# Altium schematic symbol library WE-PD.SchLib: 360 symbols (part 3 of 7)
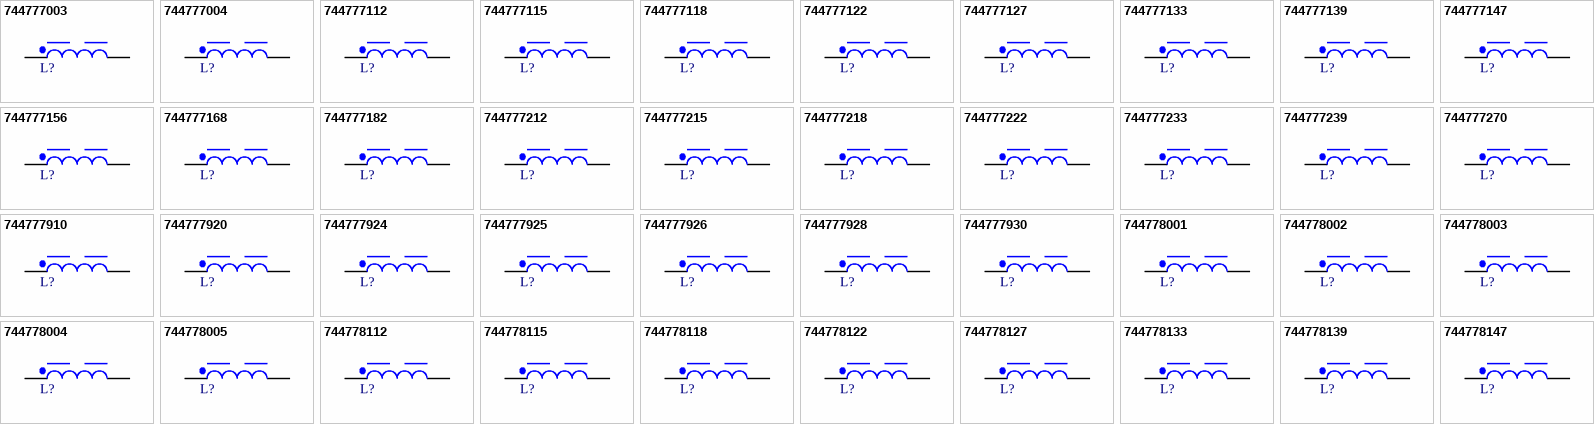
[diagram p10: symbols 744777003 to 744778147]

## 744778112
designator L?, comment 12uH, 1.73A  (value not drawn)
WE-PD SMT Power Inductor, size 7332, 12uH, 1.73A, 98mOhm; Manufacturer Part Number: 744778112; Manufacturer: Wurth Elektronik; Case/Size Code: 7332; DC Resistance: 76mOhm; Saturation Current: 2.15A; Self Resonant Frequency: 27MHz; Type: Standard; Category: Power Inductors; Match Code: WE-PD; ComponentLink1Description: Website Link; ComponentLink1URL: https://www.we-online.com/redexpert/article/744778112?ad; ComponentLink2Description: Datasheet Link; ComponentLink2URL: https://www.we-online.com/redexpert/spec/744778112?ad; Mount: Surface Mount; Operating Temperature Max: 125°C; Operating Temperature Min: -40°C; Packaging: Tape and Reel; Length: 7.3mm; Width: 7.3mm; Height: 3.2mm; DC Resistance Max: 98mOhm; Inductance: 12uH; Rated Current: 1.73A
footprint WE-PD_7332
simulation model 7332_744778112_12u
pins: 1, 2

## 744778115
designator L?, comment 15uH, 1.51A  (value not drawn)
WE-PD SMT Power Inductor, size 7332, 15uH, 1.51A, 130mOhm; Manufacturer Part Number: 744778115; Manufacturer: Wurth Elektronik; Case/Size Code: 7332; DC Resistance: 100mOhm; Saturation Current: 1.75A; Self Resonant Frequency: 26MHz; Type: Standard; Category: Power Inductors; Match Code: WE-PD; ComponentLink1Description: Website Link; ComponentLink1URL: https://www.we-online.com/redexpert/article/744778115?ad; ComponentLink2Description: Datasheet Link; ComponentLink2URL: https://www.we-online.com/redexpert/spec/744778115?ad; Mount: Surface Mount; Operating Temperature Max: 125°C; Operating Temperature Min: -40°C; Packaging: Tape and Reel; Length: 7.3mm; Width: 7.3mm; Height: 3.2mm; DC Resistance Max: 130mOhm; Inductance: 15uH; Rated Current: 1.51A
footprint WE-PD_7332
simulation model 7332_744778115_15u
pins: 1, 2

## 744778118
designator L?, comment 18uH, 1.41A  (value not drawn)
WE-PD SMT Power Inductor, size 7332, 18uH, 1.41A, 140mOhm; Manufacturer Part Number: 744778118; Manufacturer: Wurth Elektronik; Case/Size Code: 7332; DC Resistance: 114mOhm; Saturation Current: 1.7A; Self Resonant Frequency: 24MHz; Type: Standard; Category: Power Inductors; Match Code: WE-PD; ComponentLink1Description: Website Link; ComponentLink1URL: https://www.we-online.com/redexpert/article/744778118?ad; ComponentLink2Description: Datasheet Link; ComponentLink2URL: https://www.we-online.com/redexpert/spec/744778118?ad; Mount: Surface Mount; Operating Temperature Max: 125°C; Operating Temperature Min: -40°C; Packaging: Tape and Reel; Length: 7.3mm; Width: 7.3mm; Height: 3.2mm; DC Resistance Max: 140mOhm; Inductance: 18uH; Rated Current: 1.41A
footprint WE-PD_7332
simulation model 7332_744778118_18u
pins: 1, 2

## 744778122
designator L?, comment 22uH, 1.38A  (value not drawn)
WE-PD SMT Power Inductor, size 7332, 22uH, 1.38A, 190mOhm; Manufacturer Part Number: 744778122; Manufacturer: Wurth Elektronik; Case/Size Code: 7332; DC Resistance: 119mOhm; Saturation Current: 1.4A; Self Resonant Frequency: 20MHz; Type: Standard; Category: Power Inductors; Match Code: WE-PD; ComponentLink1Description: Website Link; ComponentLink1URL: https://www.we-online.com/redexpert/article/744778122?ad; ComponentLink2Description: Datasheet Link; ComponentLink2URL: https://www.we-online.com/redexpert/spec/744778122?ad; Mount: Surface Mount; Operating Temperature Max: 125°C; Operating Temperature Min: -40°C; Packaging: Tape and Reel; Length: 7.3mm; Width: 7.3mm; Height: 3.2mm; DC Resistance Max: 190mOhm; Inductance: 22uH; Rated Current: 1.38A
footprint WE-PD_7332
simulation model 7332_744778122_22u
pins: 1, 2

## 744778127
designator L?, comment 27uH, 1.27A  (value not drawn)
WE-PD SMT Power Inductor, size 7332, 27uH, 1.27A, 240mOhm; Manufacturer Part Number: 744778127; Manufacturer: Wurth Elektronik; Case/Size Code: 7332; DC Resistance: 140mOhm; Saturation Current: 1.3A; Self Resonant Frequency: 18MHz; Type: Standard; Category: Power Inductors; Match Code: WE-PD; ComponentLink1Description: Website Link; ComponentLink1URL: https://www.we-online.com/redexpert/article/744778127?ad; ComponentLink2Description: Datasheet Link; ComponentLink2URL: https://www.we-online.com/redexpert/spec/744778127?ad; Mount: Surface Mount; Operating Temperature Max: 125°C; Operating Temperature Min: -40°C; Packaging: Tape and Reel; Length: 7.3mm; Width: 7.3mm; Height: 3.2mm; DC Resistance Max: 240mOhm; Inductance: 27uH; Rated Current: 1.27A
footprint WE-PD_7332
simulation model 7332_744778127_27u
pins: 1, 2

## 744778133
designator L?, comment 33uH, 1.22A  (value not drawn)
WE-PD SMT Power Inductor, size 7332, 33uH, 1.22A, 240mOhm; Manufacturer Part Number: 744778133; Manufacturer: Wurth Elektronik; Case/Size Code: 7332; DC Resistance: 153mOhm; Saturation Current: 1.15A; Self Resonant Frequency: 16MHz; Type: Standard; Category: Power Inductors; Match Code: WE-PD; ComponentLink1Description: Website Link; ComponentLink1URL: https://www.we-online.com/redexpert/article/744778133?ad; ComponentLink2Description: Datasheet Link; ComponentLink2URL: https://www.we-online.com/redexpert/spec/744778133?ad; Mount: Surface Mount; Operating Temperature Max: 125°C; Operating Temperature Min: -40°C; Packaging: Tape and Reel; Length: 7.3mm; Width: 7.3mm; Height: 3.2mm; DC Resistance Max: 240mOhm; Inductance: 33uH; Rated Current: 1.22A
footprint WE-PD_7332
simulation model 7332_744778133_33u
pins: 1, 2

## 744778139
designator L?, comment 39uH, 1.03A  (value not drawn)
WE-PD SMT Power Inductor, size 7332, 39uH, 1.03A, 320mOhm; Manufacturer Part Number: 744778139; Manufacturer: Wurth Elektronik; Case/Size Code: 7332; DC Resistance: 214mOhm; Saturation Current: 1.1A; Self Resonant Frequency: 14MHz; Type: Standard; Category: Power Inductors; Match Code: WE-PD; ComponentLink1Description: Website Link; ComponentLink1URL: https://www.we-online.com/redexpert/article/744778139?ad; ComponentLink2Description: Datasheet Link; ComponentLink2URL: https://www.we-online.com/redexpert/spec/744778139?ad; Mount: Surface Mount; Operating Temperature Max: 125°C; Operating Temperature Min: -40°C; Packaging: Tape and Reel; Length: 7.3mm; Width: 7.3mm; Height: 3.2mm; DC Resistance Max: 320mOhm; Inductance: 39uH; Rated Current: 1.03A
footprint WE-PD_7332
simulation model 7332_744778139_39u
pins: 1, 2

## 744778147
designator L?, comment 47uH, 0.85A  (value not drawn)
WE-PD SMT Power Inductor, size 7332, 47uH, 0.85A, 360mOhm; Manufacturer Part Number: 744778147; Manufacturer: Wurth Elektronik; Case/Size Code: 7332; DC Resistance: 315mOhm; Saturation Current: 1A; Self Resonant Frequency: 13.5MHz; Type: Standard; Category: Power Inductors; Match Code: WE-PD; ComponentLink1Description: Website Link; ComponentLink1URL: https://www.we-online.com/redexpert/article/744778147?ad; ComponentLink2Description: Datasheet Link; ComponentLink2URL: https://www.we-online.com/redexpert/spec/744778147?ad; Mount: Surface Mount; Operating Temperature Max: 125°C; Operating Temperature Min: -40°C; Packaging: Tape and Reel; Length: 7.3mm; Width: 7.3mm; Height: 3.2mm; DC Resistance Max: 360mOhm; Inductance: 47uH; Rated Current: 0.85A
footprint WE-PD_7332
simulation model 7332_744778147_47u
pins: 1, 2

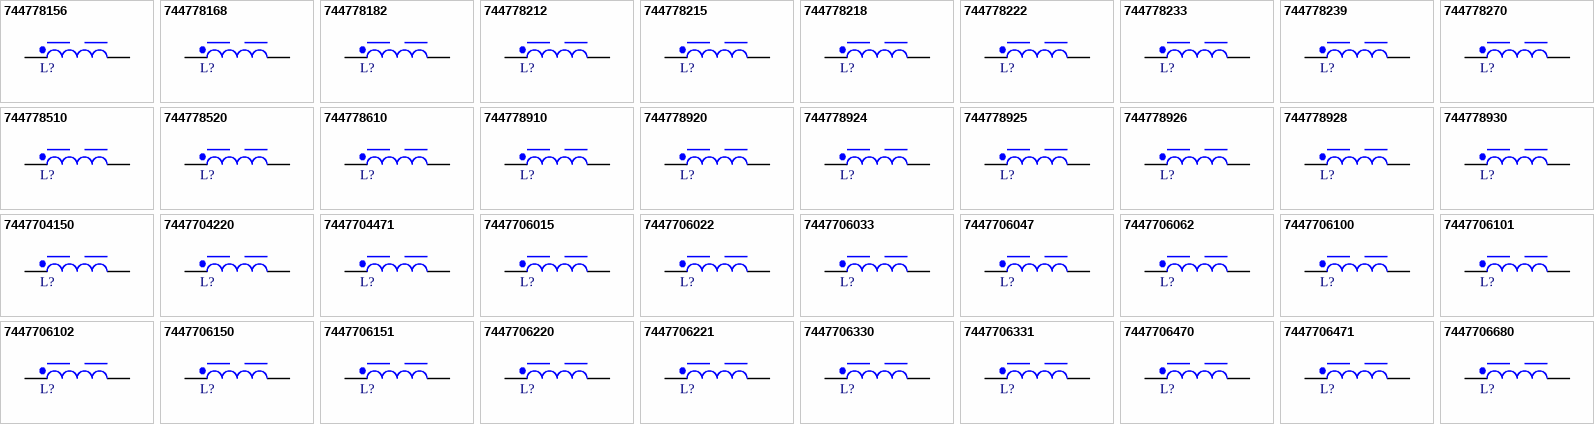
[diagram p3: symbols 744778156 to 7447706680]

## 744778156
designator L?, comment 56uH, 0.84A  (value not drawn)
WE-PD SMT Power Inductor, size 7332, 56uH, 0.84A, 470mOhm; Manufacturer Part Number: 744778156; Manufacturer: Wurth Elektronik; Case/Size Code: 7332; DC Resistance: 322mOhm; Saturation Current: 0.88A; Self Resonant Frequency: 12.5MHz; Type: Standard; Category: Power Inductors; Match Code: WE-PD; ComponentLink1Description: Website Link; ComponentLink1URL: https://www.we-online.com/redexpert/article/744778156?ad; ComponentLink2Description: Datasheet Link; ComponentLink2URL: https://www.we-online.com/redexpert/spec/744778156?ad; Mount: Surface Mount; Operating Temperature Max: 125°C; Operating Temperature Min: -40°C; Packaging: Tape and Reel; Length: 7.3mm; Width: 7.3mm; Height: 3.2mm; DC Resistance Max: 470mOhm; Inductance: 56uH; Rated Current: 0.84A
footprint WE-PD_7332
simulation model 7332_744778156_56u
pins: 1, 2

## 744778168
designator L?, comment 68uH, 0.74A  (value not drawn)
WE-PD SMT Power Inductor, size 7332, 68uH, 0.74A, 520mOhm; Manufacturer Part Number: 744778168; Manufacturer: Wurth Elektronik; Case/Size Code: 7332; DC Resistance: 420mOhm; Saturation Current: 0.84A; Self Resonant Frequency: 11.5MHz; Type: Standard; Category: Power Inductors; Match Code: WE-PD; ComponentLink1Description: Website Link; ComponentLink1URL: https://www.we-online.com/redexpert/article/744778168?ad; ComponentLink2Description: Datasheet Link; ComponentLink2URL: https://www.we-online.com/redexpert/spec/744778168?ad; Mount: Surface Mount; Operating Temperature Max: 125°C; Operating Temperature Min: -40°C; Packaging: Tape and Reel; Length: 7.3mm; Width: 7.3mm; Height: 3.2mm; DC Resistance Max: 520mOhm; Inductance: 68uH; Rated Current: 0.74A
footprint WE-PD_7332
simulation model 7332_744778168_68u
pins: 1, 2

## 744778182
designator L?, comment 82uH, 0.69A  (value not drawn)
WE-PD SMT Power Inductor, size 7332, 82uH, 0.69A, 690mOhm; Manufacturer Part Number: 744778182; Manufacturer: Wurth Elektronik; Case/Size Code: 7332; DC Resistance: 480mOhm; Saturation Current: 0.78A; Self Resonant Frequency: 9.8MHz; Type: Standard; Category: Power Inductors; Match Code: WE-PD; ComponentLink1Description: Website Link; ComponentLink1URL: https://www.we-online.com/redexpert/article/744778182?ad; ComponentLink2Description: Datasheet Link; ComponentLink2URL: https://www.we-online.com/redexpert/spec/744778182?ad; Mount: Surface Mount; Operating Temperature Max: 125°C; Operating Temperature Min: -40°C; Packaging: Tape and Reel; Length: 7.3mm; Width: 7.3mm; Height: 3.2mm; DC Resistance Max: 690mOhm; Inductance: 82uH; Rated Current: 0.69A
footprint WE-PD_7332
simulation model 7332_744778182_82u
pins: 1, 2

## 744778212
designator L?, comment 120uH, 0.6A  (value not drawn)
WE-PD SMT Power Inductor, size 7332, 120uH, 0.6A, 890mOhm; Manufacturer Part Number: 744778212; Manufacturer: Wurth Elektronik; Case/Size Code: 7332; DC Resistance: 630mOhm; Saturation Current: 0.68A; Self Resonant Frequency: 8.5MHz; Type: Standard; Category: Power Inductors; Match Code: WE-PD; ComponentLink1Description: Website Link; ComponentLink1URL: https://www.we-online.com/redexpert/article/744778212?ad; ComponentLink2Description: Datasheet Link; ComponentLink2URL: https://www.we-online.com/redexpert/spec/744778212?ad; Mount: Surface Mount; Operating Temperature Max: 125°C; Operating Temperature Min: -40°C; Packaging: Tape and Reel; Length: 7.3mm; Width: 7.3mm; Height: 3.2mm; DC Resistance Max: 890mOhm; Inductance: 120uH; Rated Current: 0.6A
footprint WE-PD_7332
simulation model 7332_744778212_120u
pins: 1, 2

## 744778215
designator L?, comment 150uH, 0.56A  (value not drawn)
WE-PD SMT Power Inductor, size 7332, 150uH, 0.56A, 1270mOhm; Manufacturer Part Number: 744778215; Manufacturer: Wurth Elektronik; Case/Size Code: 7332; DC Resistance: 720mOhm; Saturation Current: 0.53A; Self Resonant Frequency: 7.2MHz; Type: Standard; Category: Power Inductors; Match Code: WE-PD; ComponentLink1Description: Website Link; ComponentLink1URL: https://www.we-online.com/redexpert/article/744778215?ad; ComponentLink2Description: Datasheet Link; ComponentLink2URL: https://www.we-online.com/redexpert/spec/744778215?ad; Mount: Surface Mount; Operating Temperature Max: 125°C; Operating Temperature Min: -40°C; Packaging: Tape and Reel; Length: 7.3mm; Width: 7.3mm; Height: 3.2mm; DC Resistance Max: 1270mOhm; Inductance: 150uH; Rated Current: 0.56A
footprint WE-PD_7332
simulation model 7332_744778215_150u
pins: 1, 2

## 744778218
designator L?, comment 180uH, 0.49A  (value not drawn)
WE-PD SMT Power Inductor, size 7332, 180uH, 0.49A, 1450mOhm; Manufacturer Part Number: 744778218; Manufacturer: Wurth Elektronik; Case/Size Code: 7332; DC Resistance: 960mOhm; Saturation Current: 0.5A; Self Resonant Frequency: 7MHz; Type: Standard; Category: Power Inductors; Match Code: WE-PD; ComponentLink1Description: Website Link; ComponentLink1URL: https://www.we-online.com/redexpert/article/744778218?ad; ComponentLink2Description: Datasheet Link; ComponentLink2URL: https://www.we-online.com/redexpert/spec/744778218?ad; Mount: Surface Mount; Operating Temperature Max: 125°C; Operating Temperature Min: -40°C; Packaging: Tape and Reel; Length: 7.3mm; Width: 7.3mm; Height: 3.2mm; DC Resistance Max: 1450mOhm; Inductance: 180uH; Rated Current: 0.49A
footprint WE-PD_7332
simulation model 7332_744778218_180u
pins: 1, 2

## 744778222
designator L?, comment 220uH, 0.43A  (value not drawn)
WE-PD SMT Power Inductor, size 7332, 220uH, 0.43A, 1650mOhm; Manufacturer Part Number: 744778222; Manufacturer: Wurth Elektronik; Case/Size Code: 7332; DC Resistance: 1220mOhm; Saturation Current: 0.42A; Self Resonant Frequency: 6MHz; Type: Standard; Category: Power Inductors; Match Code: WE-PD; ComponentLink1Description: Website Link; ComponentLink1URL: https://www.we-online.com/redexpert/article/744778222?ad; ComponentLink2Description: Datasheet Link; ComponentLink2URL: https://www.we-online.com/redexpert/spec/744778222?ad; Mount: Surface Mount; Operating Temperature Max: 125°C; Operating Temperature Min: -40°C; Packaging: Tape and Reel; Length: 7.3mm; Width: 7.3mm; Height: 3.2mm; DC Resistance Max: 1650mOhm; Inductance: 220uH; Rated Current: 0.43A
footprint WE-PD_7332
simulation model 7332_744778222_220u
pins: 1, 2

## 744778233
designator L?, comment 330uH, 0.32A  (value not drawn)
WE-PD SMT Power Inductor, size 7332, 330uH, 0.32A, 2620mOhm; Manufacturer Part Number: 744778233; Manufacturer: Wurth Elektronik; Case/Size Code: 7332; DC Resistance: 2280mOhm; Saturation Current: 0.35A; Self Resonant Frequency: 4.8MHz; Type: Standard; Category: Power Inductors; Match Code: WE-PD; ComponentLink1Description: Website Link; ComponentLink1URL: https://www.we-online.com/redexpert/article/744778233?ad; ComponentLink2Description: Datasheet Link; ComponentLink2URL: https://www.we-online.com/redexpert/spec/744778233?ad; Mount: Surface Mount; Operating Temperature Max: 125°C; Operating Temperature Min: -40°C; Packaging: Tape and Reel; Length: 7.3mm; Width: 7.3mm; Height: 3.2mm; DC Resistance Max: 2620mOhm; Inductance: 330uH; Rated Current: 0.32A
footprint WE-PD_7332
simulation model 7332_744778233_330u
pins: 1, 2

## 744778239
designator L?, comment 390uH, 0.3A  (value not drawn)
WE-PD SMT Power Inductor, size 7332, 390uH, 0.3A, 2940mOhm; Manufacturer Part Number: 744778239; Manufacturer: Wurth Elektronik; Case/Size Code: 7332; DC Resistance: 2490mOhm; Saturation Current: 0.34A; Self Resonant Frequency: 4.4MHz; Type: Standard; Category: Power Inductors; Match Code: WE-PD; ComponentLink1Description: Website Link; ComponentLink1URL: https://www.we-online.com/redexpert/article/744778239?ad; ComponentLink2Description: Datasheet Link; ComponentLink2URL: https://www.we-online.com/redexpert/spec/744778239?ad; Mount: Surface Mount; Operating Temperature Max: 125°C; Operating Temperature Min: -40°C; Packaging: Tape and Reel; Length: 7.3mm; Width: 7.3mm; Height: 3.2mm; DC Resistance Max: 2940mOhm; Inductance: 390uH; Rated Current: 0.3A
footprint WE-PD_7332
simulation model 7332_744778239_390u
pins: 1, 2

## 744778270
designator L?, comment 270uH, 0.4A  (value not drawn)
WE-PD SMT Power Inductor, size 7332, 270uH, 0.4A, 2310mOhm; Manufacturer Part Number: 744778270; Manufacturer: Wurth Elektronik; Case/Size Code: 7332; DC Resistance: 1440mOhm; Saturation Current: 0.39A; Self Resonant Frequency: 5.2MHz; Type: Standard; Category: Power Inductors; Match Code: WE-PD; ComponentLink1Description: Website Link; ComponentLink1URL: https://www.we-online.com/redexpert/article/744778270?ad; ComponentLink2Description: Datasheet Link; ComponentLink2URL: https://www.we-online.com/redexpert/spec/744778270?ad; Mount: Surface Mount; Operating Temperature Max: 125°C; Operating Temperature Min: -40°C; Packaging: Tape and Reel; Length: 7.3mm; Width: 7.3mm; Height: 3.2mm; DC Resistance Max: 2310mOhm; Inductance: 270uH; Rated Current: 0.4A
footprint WE-PD_7332
simulation model 7332_744778270_270u
pins: 1, 2

## 744778510
designator L?, comment 10uH, 1.9A  (value not drawn)
WE-PD SMT Power Inductor, size 6033R, 10uH, 1.9A, 125mOhm; Manufacturer Part Number: 744778510; Manufacturer: Wurth Elektronik; DC Resistance: 100mOhm; Saturation Current: 1.6A; Self Resonant Frequency: 37MHz; Type: Robust; Category: Power Inductors; Match Code: WE-PD; ComponentLink1Description: Website Link; ComponentLink1URL: https://www.we-online.com/redexpert/article/744778510?ad; ComponentLink2Description: Datasheet Link; ComponentLink2URL: https://www.we-online.com/redexpert/spec/744778510?ad; Mount: Surface Mount; Operating Temperature Max: 125°C; Operating Temperature Min: -40°C; Packaging: Tape and Reel; Case/Size Code: 6033R; Length: 5.9mm; Width: 6.2mm; Height: 3.3mm; DC Resistance Max: 125mOhm; Inductance: 10uH; Rated Current: 1.9A
footprint WE-PD_6033R
simulation model 6033_744778510_10u
pins: 1, 2

## 744778520
designator L?, comment 100uH, 0.65A  (value not drawn)
WE-PD SMT Power Inductor, size 6033R, 100uH, 0.65A, 1060mOhm; Manufacturer Part Number: 744778520; Manufacturer: Wurth Elektronik; DC Resistance: 950mOhm; Saturation Current: 0.5A; Self Resonant Frequency: 11MHz; Type: Robust; Category: Power Inductors; Match Code: WE-PD; ComponentLink1Description: Website Link; ComponentLink1URL: https://www.we-online.com/redexpert/article/744778520?ad; ComponentLink2Description: Datasheet Link; ComponentLink2URL: https://www.we-online.com/redexpert/spec/744778520?ad; Mount: Surface Mount; Operating Temperature Max: 125°C; Operating Temperature Min: -40°C; Packaging: Tape and Reel; Case/Size Code: 6033R; Length: 5.9mm; Width: 6.2mm; Height: 3.3mm; DC Resistance Max: 1060mOhm; Inductance: 100uH; Rated Current: 0.65A
footprint WE-PD_6033R
simulation model 6033_744778520_100u
pins: 1, 2

## 744778610
designator L?, comment 10uH, 2.1A  (value not drawn)
WE-PD SMT Power Inductor, size 6050R, 10uH, 2.1A, 88mOhm; Manufacturer Part Number: 744778610; Manufacturer: Wurth Elektronik; DC Resistance: 74mOhm; Saturation Current: 1.8A; Self Resonant Frequency: 35MHz; Type: Robust; Category: Power Inductors; Match Code: WE-PD; ComponentLink1Description: Website Link; ComponentLink1URL: https://www.we-online.com/redexpert/article/744778610?ad; ComponentLink2Description: Datasheet Link; ComponentLink2URL: https://www.we-online.com/redexpert/spec/744778610?ad; Mount: Surface Mount; Operating Temperature Max: 125°C; Operating Temperature Min: -40°C; Packaging: Tape and Reel; Case/Size Code: 6050R; Length: 5.9mm; Width: 6.2mm; Height: 5.1mm; DC Resistance Max: 88mOhm; Inductance: 10uH; Rated Current: 2.1A
footprint WE-PD_6050R
simulation model 6050_744778610_10u
pins: 1, 2

## 744778910
designator L?, comment 10uH, 1.83A  (value not drawn)
WE-PD SMT Power Inductor, size 7332R, 10uH, 1.83A, 72mOhm; Manufacturer Part Number: 744778910; Manufacturer: Wurth Elektronik; DC Resistance: 64mOhm; Saturation Current: 2.2A; Self Resonant Frequency: 32MHz; Type: Robust; Category: Power Inductors; Match Code: WE-PD; ComponentLink1Description: Website Link; ComponentLink1URL: https://www.we-online.com/redexpert/article/744778910?ad; ComponentLink2Description: Datasheet Link; ComponentLink2URL: https://www.we-online.com/redexpert/spec/744778910?ad; Mount: Surface Mount; Operating Temperature Max: 125°C; Operating Temperature Min: -40°C; Packaging: Tape and Reel; Case/Size Code: 7332R; Length: 7.3mm; Width: 7.3mm; Height: 3.2mm; DC Resistance Max: 72mOhm; Inductance: 10uH; Rated Current: 1.83A
footprint WE-PD_7332R
simulation model 7332_744778910_10u
pins: 1, 2

## 744778920
designator L?, comment 100uH, 0.62A  (value not drawn)
WE-PD SMT Power Inductor, size 7332R, 100uH, 0.62A, 790mOhm; Manufacturer Part Number: 744778920; Manufacturer: Wurth Elektronik; DC Resistance: 585mOhm; Saturation Current: 0.76A; Self Resonant Frequency: 9MHz; Type: Robust; Category: Power Inductors; Match Code: WE-PD; ComponentLink1Description: Website Link; ComponentLink1URL: https://www.we-online.com/redexpert/article/744778920?ad; ComponentLink2Description: Datasheet Link; ComponentLink2URL: https://www.we-online.com/redexpert/spec/744778920?ad; Mount: Surface Mount; Operating Temperature Max: 125°C; Operating Temperature Min: -40°C; Packaging: Tape and Reel; Case/Size Code: 7332R; Length: 7.3mm; Width: 7.3mm; Height: 3.2mm; DC Resistance Max: 790mOhm; Inductance: 100uH; Rated Current: 0.62A
footprint WE-PD_7332R
simulation model 7332_744778920_100u
pins: 1, 2

## 744778924
designator L?, comment 470uH, 0.3A  (value not drawn)
WE-PD SMT Power Inductor, size 7332R, 470uH, 0.3A, 4180mOhm; Manufacturer Part Number: 744778924; Manufacturer: Wurth Elektronik; DC Resistance: 2600mOhm; Saturation Current: 0.31A; Self Resonant Frequency: 4MHz; Type: Robust; Category: Power Inductors; Match Code: WE-PD; ComponentLink1Description: Website Link; ComponentLink1URL: https://www.we-online.com/redexpert/article/744778924?ad; ComponentLink2Description: Datasheet Link; ComponentLink2URL: https://www.we-online.com/redexpert/spec/744778924?ad; Mount: Surface Mount; Operating Temperature Max: 125°C; Operating Temperature Min: -40°C; Packaging: Tape and Reel; Case/Size Code: 7332R; Length: 7.3mm; Width: 7.3mm; Height: 3.2mm; DC Resistance Max: 4180mOhm; Inductance: 470uH; Rated Current: 0.3A
footprint WE-PD_7332R
simulation model 7332_744778924_470u
pins: 1, 2

## 744778925
designator L?, comment 560uH, 0.27A  (value not drawn)
WE-PD SMT Power Inductor, size 7332R, 560uH, 0.27A, 4670mOhm; Manufacturer Part Number: 744778925; Manufacturer: Wurth Elektronik; DC Resistance: 3000mOhm; Saturation Current: 0.3A; Self Resonant Frequency: 3.7MHz; Type: Robust; Category: Power Inductors; Match Code: WE-PD; ComponentLink1Description: Website Link; ComponentLink1URL: https://www.we-online.com/redexpert/article/744778925?ad; ComponentLink2Description: Datasheet Link; ComponentLink2URL: https://www.we-online.com/redexpert/spec/744778925?ad; Mount: Surface Mount; Operating Temperature Max: 125°C; Operating Temperature Min: -40°C; Packaging: Tape and Reel; Case/Size Code: 7332R; Length: 7.3mm; Width: 7.3mm; Height: 3.2mm; DC Resistance Max: 4670mOhm; Inductance: 560uH; Rated Current: 0.27A
footprint WE-PD_7332R
simulation model 7332_744778925_560u
pins: 1, 2

## 744778926
designator L?, comment 680uH, 0.22A  (value not drawn)
WE-PD SMT Power Inductor, size 7332R, 680uH, 0.22A, 5730mOhm; Manufacturer Part Number: 744778926; Manufacturer: Wurth Elektronik; DC Resistance: 4500mOhm; Self Resonant Frequency: 3.4MHz; Type: Robust; Category: Power Inductors; Match Code: WE-PD; ComponentLink1Description: Website Link; ComponentLink1URL: https://www.we-online.com/redexpert/article/744778926?ad; ComponentLink2Description: Datasheet Link; ComponentLink2URL: https://www.we-online.com/redexpert/spec/744778926?ad; Mount: Surface Mount; Operating Temperature Max: 125°C; Operating Temperature Min: -40°C; Packaging: Tape and Reel; Case/Size Code: 7332R; Length: 7.3mm; Width: 7.3mm; Height: 3.2mm; DC Resistance Max: 5730mOhm; Inductance: 680uH; Rated Current: 0.22A; Saturation Current: 0.22A
footprint WE-PD_7332R
simulation model 7332_744778926_680u
pins: 1, 2

## 744778928
designator L?, comment 820uH, 0.21A  (value not drawn)
WE-PD SMT Power Inductor, size 7332R, 820uH, 0.21A, 6540mOhm; Manufacturer Part Number: 744778928; Manufacturer: Wurth Elektronik; DC Resistance: 4990mOhm; Saturation Current: 0.2A; Self Resonant Frequency: 2.8MHz; Type: Robust; Category: Power Inductors; Match Code: WE-PD; ComponentLink1Description: Website Link; ComponentLink1URL: https://www.we-online.com/redexpert/article/744778928?ad; ComponentLink2Description: Datasheet Link; ComponentLink2URL: https://www.we-online.com/redexpert/spec/744778928?ad; Mount: Surface Mount; Operating Temperature Max: 125°C; Operating Temperature Min: -40°C; Packaging: Tape and Reel; Case/Size Code: 7332R; Length: 7.3mm; Width: 7.3mm; Height: 3.2mm; DC Resistance Max: 6540mOhm; Inductance: 820uH; Rated Current: 0.21A
footprint WE-PD_7332R
simulation model 7332_744778928_820u
pins: 1, 2

## 744778930
designator L?, comment 1000uH, 0.2A  (value not drawn)
WE-PD SMT Power Inductor, size 7332R, 1000uH, 0.2A, 9440mOhm; Manufacturer Part Number: 744778930; Manufacturer: Wurth Elektronik; DC Resistance: 5570mOhm; Saturation Current: 0.18A; Self Resonant Frequency: 2.6MHz; Type: Robust; Category: Power Inductors; Match Code: WE-PD; ComponentLink1Description: Website Link; ComponentLink1URL: https://www.we-online.com/redexpert/article/744778930?ad; ComponentLink2Description: Datasheet Link; ComponentLink2URL: https://www.we-online.com/redexpert/spec/744778930?ad; Mount: Surface Mount; Operating Temperature Max: 125°C; Operating Temperature Min: -40°C; Packaging: Tape and Reel; Case/Size Code: 7332R; Length: 7.3mm; Width: 7.3mm; Height: 3.2mm; DC Resistance Max: 9440mOhm; Inductance: 1000uH; Rated Current: 0.2A
footprint WE-PD_7332R
simulation model 7332_744778930_1000u
pins: 1, 2

## 7447704150
designator L?, comment 15uH, 7A  (value not drawn)
WE-PD SMT Power Inductor, size 1510, 15uH, 7A, 26mOhm; Manufacturer Part Number: 7447704150; Manufacturer: Wurth Elektronik; Case/Size Code: 1510; DC Resistance: 19.5mOhm; Saturation Current: 8.8A; Self Resonant Frequency: 20.5MHz; Type: Standard; Category: Power Inductors; Match Code: WE-PD; ComponentLink1Description: Website Link; ComponentLink1URL: https://www.we-online.com/redexpert/article/7447704150?ad; ComponentLink2Description: Datasheet Link; ComponentLink2URL: https://www.we-online.com/redexpert/spec/7447704150?ad; Mount: Surface Mount; Operating Temperature Max: 125°C; Operating Temperature Min: -40°C; Packaging: Tape and Reel; Length: 15mm; Width: 15mm; Height: 10mm; DC Resistance Max: 26mOhm; Inductance: 15uH; Rated Current: 7A
footprint WE-PD_1510
simulation model 1510_7447704150_15u
pins: 1, 2

## 7447704220
designator L?, comment 22uH, 6.2A  (value not drawn)
WE-PD SMT Power Inductor, size 1510, 22uH, 6.2A, 33mOhm; Manufacturer Part Number: 7447704220; Manufacturer: Wurth Elektronik; Case/Size Code: 1510; DC Resistance: 25mOhm; Saturation Current: 7.2A; Self Resonant Frequency: 11.5MHz; Type: Standard; Category: Power Inductors; Match Code: WE-PD; ComponentLink1Description: Website Link; ComponentLink1URL: https://www.we-online.com/redexpert/article/7447704220?ad; ComponentLink2Description: Datasheet Link; ComponentLink2URL: https://www.we-online.com/redexpert/spec/7447704220?ad; Mount: Surface Mount; Operating Temperature Max: 125°C; Operating Temperature Min: -40°C; Packaging: Tape and Reel; Length: 15mm; Width: 15mm; Height: 10mm; DC Resistance Max: 33mOhm; Inductance: 22uH; Rated Current: 6.2A
footprint WE-PD_1510
simulation model 1510_7447704220_22u
pins: 1, 2

## 7447704471
designator L?, comment 470uH, 1.3A  (value not drawn)
WE-PD SMT Power Inductor, size 1510, 470uH, 1.3A, 500mOhm; Manufacturer Part Number: 7447704471; Manufacturer: Wurth Elektronik; Case/Size Code: 1510; DC Resistance: 425mOhm; Saturation Current: 1.7A; Self Resonant Frequency: 1.7MHz; Type: Standard; Category: Power Inductors; Match Code: WE-PD; ComponentLink1Description: Website Link; ComponentLink1URL: https://www.we-online.com/redexpert/article/7447704471?ad; ComponentLink2Description: Datasheet Link; ComponentLink2URL: https://www.we-online.com/redexpert/spec/7447704471?ad; Mount: Surface Mount; Operating Temperature Max: 125°C; Operating Temperature Min: -40°C; Packaging: Tape and Reel; Length: 15mm; Width: 15mm; Height: 10mm; DC Resistance Max: 500mOhm; Inductance: 470uH; Rated Current: 1.3A
footprint WE-PD_1510
simulation model 1510_7447704471_470u
pins: 1, 2

## 7447706015
designator L?, comment 1.5uH, 11.5A  (value not drawn)
WE-PD SMT Power Inductor, size 1260P, 1.5uH, 11.5A, 7mOhm; Manufacturer Part Number: 7447706015; Manufacturer: Wurth Elektronik; DC Resistance: 5mOhm; Saturation Current: 20A; Self Resonant Frequency: 50.5MHz; Type: Performance; Category: Power Inductors; Match Code: WE-PD; ComponentLink1Description: Website Link; ComponentLink1URL: https://www.we-online.com/redexpert/article/7447706015?ad; ComponentLink2Description: Datasheet Link; ComponentLink2URL: https://www.we-online.com/redexpert/spec/7447706015?ad; Mount: Surface Mount; Operating Temperature Max: 150°C; Operating Temperature Min: -40°C; Packaging: Tape and Reel; Case/Size Code: 1260P; Length: 12mm; Width: 12mm; Height: 6mm; DC Resistance Max: 7mOhm; Inductance: 1.5uH; Rated Current: 11.5A
footprint WE-PD_1260P
simulation model 1260_7447706015_1.5u
pins: 1, 2

## 7447706022
designator L?, comment 2.2uH, 10.2A  (value not drawn)
WE-PD SMT Power Inductor, size 1260P, 2.2uH, 10.2A, 8.5mOhm; Manufacturer Part Number: 7447706022; Manufacturer: Wurth Elektronik; DC Resistance: 6.2mOhm; Saturation Current: 16.5A; Self Resonant Frequency: 40.2MHz; Type: Performance; Category: Power Inductors; Match Code: WE-PD; ComponentLink1Description: Website Link; ComponentLink1URL: https://www.we-online.com/redexpert/article/7447706022?ad; ComponentLink2Description: Datasheet Link; ComponentLink2URL: https://www.we-online.com/redexpert/spec/7447706022?ad; Mount: Surface Mount; Operating Temperature Max: 150°C; Operating Temperature Min: -40°C; Packaging: Tape and Reel; Case/Size Code: 1260P; Length: 12mm; Width: 12mm; Height: 6mm; DC Resistance Max: 8.5mOhm; Inductance: 2.2uH; Rated Current: 10.2A
footprint WE-PD_1260P
simulation model 1260_7447706022_2.2u
pins: 1, 2

## 7447706033
designator L?, comment 3.3uH, 9.2A  (value not drawn)
WE-PD SMT Power Inductor, size 1260P, 3.3uH, 9.2A, 10mOhm; Manufacturer Part Number: 7447706033; Manufacturer: Wurth Elektronik; DC Resistance: 7.5mOhm; Saturation Current: 13.5A; Self Resonant Frequency: 32.2MHz; Type: Performance; Category: Power Inductors; Match Code: WE-PD; ComponentLink1Description: Website Link; ComponentLink1URL: https://www.we-online.com/redexpert/article/7447706033?ad; ComponentLink2Description: Datasheet Link; ComponentLink2URL: https://www.we-online.com/redexpert/spec/7447706033?ad; Mount: Surface Mount; Operating Temperature Max: 150°C; Operating Temperature Min: -40°C; Packaging: Tape and Reel; Case/Size Code: 1260P; Length: 12mm; Width: 12mm; Height: 6mm; DC Resistance Max: 10mOhm; Inductance: 3.3uH; Rated Current: 9.2A
footprint WE-PD_1260P
simulation model 1260_7447706033_3.3u
pins: 1, 2

## 7447706047
designator L?, comment 4.7uH, 8.1A  (value not drawn)
WE-PD SMT Power Inductor, size 1260P, 4.7uH, 8.1A, 12mOhm; Manufacturer Part Number: 7447706047; Manufacturer: Wurth Elektronik; DC Resistance: 9mOhm; Saturation Current: 11.5A; Self Resonant Frequency: 27.4MHz; Type: Performance; Category: Power Inductors; Match Code: WE-PD; ComponentLink1Description: Website Link; ComponentLink1URL: https://www.we-online.com/redexpert/article/7447706047?ad; ComponentLink2Description: Datasheet Link; ComponentLink2URL: https://www.we-online.com/redexpert/spec/7447706047?ad; Mount: Surface Mount; Operating Temperature Max: 150°C; Operating Temperature Min: -40°C; Packaging: Tape and Reel; Case/Size Code: 1260P; Length: 12mm; Width: 12mm; Height: 6mm; DC Resistance Max: 12mOhm; Inductance: 4.7uH; Rated Current: 8.1A
footprint WE-PD_1260P
simulation model 1260_7447706047_4.7u
pins: 1, 2

## 7447706062
designator L?, comment 6.2uH, 7A  (value not drawn)
WE-PD SMT Power Inductor, size 1260P, 6.2uH, 7A, 15mOhm; Manufacturer Part Number: 7447706062; Manufacturer: Wurth Elektronik; DC Resistance: 12mOhm; Saturation Current: 10A; Self Resonant Frequency: 22.5MHz; Type: Performance; Category: Power Inductors; Match Code: WE-PD; ComponentLink1Description: Website Link; ComponentLink1URL: https://www.we-online.com/redexpert/article/7447706062?ad; ComponentLink2Description: Datasheet Link; ComponentLink2URL: https://www.we-online.com/redexpert/spec/7447706062?ad; Mount: Surface Mount; Operating Temperature Max: 150°C; Operating Temperature Min: -40°C; Packaging: Tape and Reel; Case/Size Code: 1260P; Length: 12mm; Width: 12mm; Height: 6mm; DC Resistance Max: 15mOhm; Inductance: 6.2uH; Rated Current: 7A
footprint WE-PD_1260P
simulation model 1260_7447706062_6.2u
pins: 1, 2

## 7447706100
designator L?, comment 10uH, 5.8A  (value not drawn)
WE-PD SMT Power Inductor, size 1260P, 10uH, 5.8A, 20mOhm; Manufacturer Part Number: 7447706100; Manufacturer: Wurth Elektronik; DC Resistance: 16.3mOhm; Saturation Current: 7.8A; Self Resonant Frequency: 17.6MHz; Type: Performance; Category: Power Inductors; Match Code: WE-PD; ComponentLink1Description: Website Link; ComponentLink1URL: https://www.we-online.com/redexpert/article/7447706100?ad; ComponentLink2Description: Datasheet Link; ComponentLink2URL: https://www.we-online.com/redexpert/spec/7447706100?ad; Mount: Surface Mount; Operating Temperature Max: 150°C; Operating Temperature Min: -40°C; Packaging: Tape and Reel; Case/Size Code: 1260P; Length: 12mm; Width: 12mm; Height: 6mm; DC Resistance Max: 20mOhm; Inductance: 10uH; Rated Current: 5.8A
footprint WE-PD_1260P
simulation model 1260_7447706100_10u
pins: 1, 2

## 7447706101
designator L?, comment 100uH, 1.9A  (value not drawn)
WE-PD SMT Power Inductor, size 1260P, 100uH, 1.9A, 140mOhm; Manufacturer Part Number: 7447706101; Manufacturer: Wurth Elektronik; DC Resistance: 122mOhm; Saturation Current: 2.5A; Self Resonant Frequency: 5.2MHz; Type: Performance; Category: Power Inductors; Match Code: WE-PD; ComponentLink1Description: Website Link; ComponentLink1URL: https://www.we-online.com/redexpert/article/7447706101?ad; ComponentLink2Description: Datasheet Link; ComponentLink2URL: https://www.we-online.com/redexpert/spec/7447706101?ad; Mount: Surface Mount; Operating Temperature Max: 150°C; Operating Temperature Min: -40°C; Packaging: Tape and Reel; Case/Size Code: 1260P; Length: 12mm; Width: 12mm; Height: 6mm; DC Resistance Max: 140mOhm; Inductance: 100uH; Rated Current: 1.9A
footprint WE-PD_1260P
simulation model 1260_7447706101_100u
pins: 1, 2

## 7447706102
designator L?, comment 1000uH, 0.6A  (value not drawn)
WE-PD SMT Power Inductor, size 1260P, 1000uH, 0.6A, 1250mOhm; Manufacturer Part Number: 7447706102; Manufacturer: Wurth Elektronik; DC Resistance: 1150mOhm; Saturation Current: 0.8A; Self Resonant Frequency: 1.45MHz; Type: Performance; Category: Power Inductors; Match Code: WE-PD; ComponentLink1Description: Website Link; ComponentLink1URL: https://www.we-online.com/redexpert/article/7447706102?ad; ComponentLink2Description: Datasheet Link; ComponentLink2URL: https://www.we-online.com/redexpert/spec/7447706102?ad; Mount: Surface Mount; Operating Temperature Max: 150°C; Operating Temperature Min: -40°C; Packaging: Tape and Reel; Case/Size Code: 1260P; Length: 12mm; Width: 12mm; Height: 6mm; DC Resistance Max: 1250mOhm; Inductance: 1000uH; Rated Current: 0.6A
footprint WE-PD_1260P
simulation model 1260_7447706102_1000u
pins: 1, 2

## 7447706150
designator L?, comment 15uH, 4.7A  (value not drawn)
WE-PD SMT Power Inductor, size 1260P, 15uH, 4.7A, 28mOhm; Manufacturer Part Number: 7447706150; Manufacturer: Wurth Elektronik; DC Resistance: 22.9mOhm; Saturation Current: 6.4A; Self Resonant Frequency: 13.9MHz; Type: Performance; Category: Power Inductors; Match Code: WE-PD; ComponentLink1Description: Website Link; ComponentLink1URL: https://www.we-online.com/redexpert/article/7447706150?ad; ComponentLink2Description: Datasheet Link; ComponentLink2URL: https://www.we-online.com/redexpert/spec/7447706150?ad; Mount: Surface Mount; Operating Temperature Max: 150°C; Operating Temperature Min: -40°C; Packaging: Tape and Reel; Case/Size Code: 1260P; Length: 12mm; Width: 12mm; Height: 6mm; DC Resistance Max: 28mOhm; Inductance: 15uH; Rated Current: 4.7A
footprint WE-PD_1260P
simulation model 1260_7447706150_15u
pins: 1, 2

## 7447706151
designator L?, comment 150uH, 1.55A  (value not drawn)
WE-PD SMT Power Inductor, size 1260P, 150uH, 1.55A, 200mOhm; Manufacturer Part Number: 7447706151; Manufacturer: Wurth Elektronik; DC Resistance: 175mOhm; Saturation Current: 2A; Self Resonant Frequency: 4.2MHz; Type: Performance; Category: Power Inductors; Match Code: WE-PD; ComponentLink1Description: Website Link; ComponentLink1URL: https://www.we-online.com/redexpert/article/7447706151?ad; ComponentLink2Description: Datasheet Link; ComponentLink2URL: https://www.we-online.com/redexpert/spec/7447706151?ad; Mount: Surface Mount; Operating Temperature Max: 150°C; Operating Temperature Min: -40°C; Packaging: Tape and Reel; Case/Size Code: 1260P; Length: 12mm; Width: 12mm; Height: 6mm; DC Resistance Max: 200mOhm; Inductance: 150uH; Rated Current: 1.55A
footprint WE-PD_1260P
simulation model 1260_7447706151_150u
pins: 1, 2

## 7447706220
designator L?, comment 22uH, 3.7A  (value not drawn)
WE-PD SMT Power Inductor, size 1260P, 22uH, 3.7A, 41mOhm; Manufacturer Part Number: 7447706220; Manufacturer: Wurth Elektronik; DC Resistance: 34.3mOhm; Saturation Current: 5.2A; Self Resonant Frequency: 11MHz; Type: Performance; Category: Power Inductors; Match Code: WE-PD; ComponentLink1Description: Website Link; ComponentLink1URL: https://www.we-online.com/redexpert/article/7447706220?ad; ComponentLink2Description: Datasheet Link; ComponentLink2URL: https://www.we-online.com/redexpert/spec/7447706220?ad; Mount: Surface Mount; Operating Temperature Max: 150°C; Operating Temperature Min: -40°C; Packaging: Tape and Reel; Case/Size Code: 1260P; Length: 12mm; Width: 12mm; Height: 6mm; DC Resistance Max: 41mOhm; Inductance: 22uH; Rated Current: 3.7A
footprint WE-PD_1260P
simulation model 1260_7447706220_22u
pins: 1, 2

## 7447706221
designator L?, comment 220uH, 1.25A  (value not drawn)
WE-PD SMT Power Inductor, size 1260P, 220uH, 1.25A, 310mOhm; Manufacturer Part Number: 7447706221; Manufacturer: Wurth Elektronik; DC Resistance: 273mOhm; Saturation Current: 1.7A; Self Resonant Frequency: 3.3MHz; Type: Performance; Category: Power Inductors; Match Code: WE-PD; ComponentLink1Description: Website Link; ComponentLink1URL: https://www.we-online.com/redexpert/article/7447706221?ad; ComponentLink2Description: Datasheet Link; ComponentLink2URL: https://www.we-online.com/redexpert/spec/7447706221?ad; Mount: Surface Mount; Operating Temperature Max: 150°C; Operating Temperature Min: -40°C; Packaging: Tape and Reel; Case/Size Code: 1260P; Length: 12mm; Width: 12mm; Height: 6mm; DC Resistance Max: 310mOhm; Inductance: 220uH; Rated Current: 1.25A
footprint WE-PD_1260P
simulation model 1260_7447706221_220u
pins: 1, 2

## 7447706330
designator L?, comment 33uH, 3A  (value not drawn)
WE-PD SMT Power Inductor, size 1260P, 33uH, 3A, 60mOhm; Manufacturer Part Number: 7447706330; Manufacturer: Wurth Elektronik; DC Resistance: 50.8mOhm; Saturation Current: 4.2A; Self Resonant Frequency: 9.2MHz; Type: Performance; Category: Power Inductors; Match Code: WE-PD; ComponentLink1Description: Website Link; ComponentLink1URL: https://www.we-online.com/redexpert/article/7447706330?ad; ComponentLink2Description: Datasheet Link; ComponentLink2URL: https://www.we-online.com/redexpert/spec/7447706330?ad; Mount: Surface Mount; Operating Temperature Max: 150°C; Operating Temperature Min: -40°C; Packaging: Tape and Reel; Case/Size Code: 1260P; Length: 12mm; Width: 12mm; Height: 6mm; DC Resistance Max: 60mOhm; Inductance: 33uH; Rated Current: 3A
footprint WE-PD_1260P
simulation model 1260_7447706330_33u
pins: 1, 2

## 7447706331
designator L?, comment 330uH, 1.05A  (value not drawn)
WE-PD SMT Power Inductor, size 1260P, 330uH, 1.05A, 450mOhm; Manufacturer Part Number: 7447706331; Manufacturer: Wurth Elektronik; DC Resistance: 395mOhm; Saturation Current: 1.4A; Self Resonant Frequency: 2.6MHz; Type: Performance; Category: Power Inductors; Match Code: WE-PD; ComponentLink1Description: Website Link; ComponentLink1URL: https://www.we-online.com/redexpert/article/7447706331?ad; ComponentLink2Description: Datasheet Link; ComponentLink2URL: https://www.we-online.com/redexpert/spec/7447706331?ad; Mount: Surface Mount; Operating Temperature Max: 150°C; Operating Temperature Min: -40°C; Packaging: Tape and Reel; Case/Size Code: 1260P; Length: 12mm; Width: 12mm; Height: 6mm; DC Resistance Max: 450mOhm; Inductance: 330uH; Rated Current: 1.05A
footprint WE-PD_1260P
simulation model 1260_7447706331_330u
pins: 1, 2

## 7447706470
designator L?, comment 47uH, 2.7A  (value not drawn)
WE-PD SMT Power Inductor, size 1260P, 47uH, 2.7A, 72mOhm; Manufacturer Part Number: 7447706470; Manufacturer: Wurth Elektronik; DC Resistance: 61.2mOhm; Saturation Current: 3.6A; Self Resonant Frequency: 7.5MHz; Type: Performance; Category: Power Inductors; Match Code: WE-PD; ComponentLink1Description: Website Link; ComponentLink1URL: https://www.we-online.com/redexpert/article/7447706470?ad; ComponentLink2Description: Datasheet Link; ComponentLink2URL: https://www.we-online.com/redexpert/spec/7447706470?ad; Mount: Surface Mount; Operating Temperature Max: 150°C; Operating Temperature Min: -40°C; Packaging: Tape and Reel; Case/Size Code: 1260P; Length: 12mm; Width: 12mm; Height: 6mm; DC Resistance Max: 72mOhm; Inductance: 47uH; Rated Current: 2.7A
footprint WE-PD_1260P
simulation model 1260_7447706470_47u
pins: 1, 2

## 7447706471
designator L?, comment 470uH, 0.86A  (value not drawn)
WE-PD SMT Power Inductor, size 1260P, 470uH, 0.86A, 610mOhm; Manufacturer Part Number: 7447706471; Manufacturer: Wurth Elektronik; DC Resistance: 543mOhm; Saturation Current: 1.15A; Self Resonant Frequency: 2.3MHz; Type: Performance; Category: Power Inductors; Match Code: WE-PD; ComponentLink1Description: Website Link; ComponentLink1URL: https://www.we-online.com/redexpert/article/7447706471?ad; ComponentLink2Description: Datasheet Link; ComponentLink2URL: https://www.we-online.com/redexpert/spec/7447706471?ad; Mount: Surface Mount; Operating Temperature Max: 150°C; Operating Temperature Min: -40°C; Packaging: Tape and Reel; Case/Size Code: 1260P; Length: 12mm; Width: 12mm; Height: 6mm; DC Resistance Max: 610mOhm; Inductance: 470uH; Rated Current: 0.86A
footprint WE-PD_1260P
simulation model 1260_7447706471_470u
pins: 1, 2

## 7447706680
designator L?, comment 68uH, 2.3A  (value not drawn)
WE-PD SMT Power Inductor, size 1260P, 68uH, 2.3A, 97mOhm; Manufacturer Part Number: 7447706680; Manufacturer: Wurth Elektronik; DC Resistance: 82mOhm; Saturation Current: 3A; Self Resonant Frequency: 6.5MHz; Type: Performance; Category: Power Inductors; Match Code: WE-PD; ComponentLink1Description: Website Link; ComponentLink1URL: https://www.we-online.com/redexpert/article/7447706680?ad; ComponentLink2Description: Datasheet Link; ComponentLink2URL: https://www.we-online.com/redexpert/spec/7447706680?ad; Mount: Surface Mount; Operating Temperature Max: 150°C; Operating Temperature Min: -40°C; Packaging: Tape and Reel; Case/Size Code: 1260P; Length: 12mm; Width: 12mm; Height: 6mm; DC Resistance Max: 97mOhm; Inductance: 68uH; Rated Current: 2.3A
footprint WE-PD_1260P
simulation model 1260_7447706680_68u
pins: 1, 2

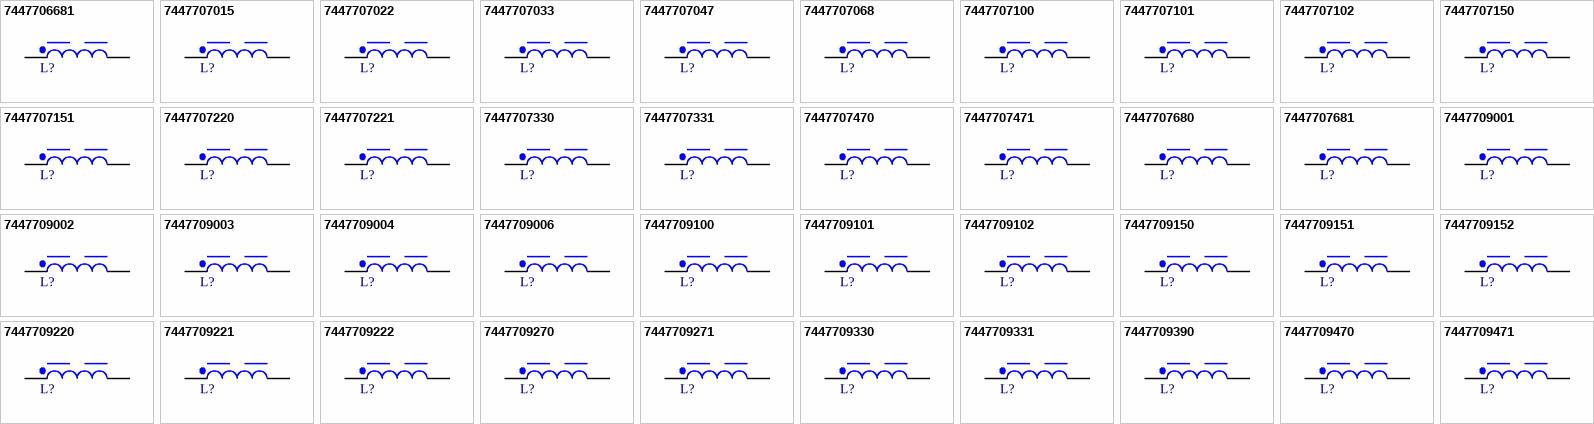
[diagram p4: symbols 7447706681 to 7447709471]

## 7447706681
designator L?, comment 680uH, 0.72A  (value not drawn)
WE-PD SMT Power Inductor, size 1260P, 680uH, 0.72A, 860mOhm; Manufacturer Part Number: 7447706681; Manufacturer: Wurth Elektronik; DC Resistance: 780mOhm; Saturation Current: 0.95A; Self Resonant Frequency: 1.8MHz; Type: Performance; Category: Power Inductors; Match Code: WE-PD; ComponentLink1Description: Website Link; ComponentLink1URL: https://www.we-online.com/redexpert/article/7447706681?ad; ComponentLink2Description: Datasheet Link; ComponentLink2URL: https://www.we-online.com/redexpert/spec/7447706681?ad; Mount: Surface Mount; Operating Temperature Max: 150°C; Operating Temperature Min: -40°C; Packaging: Tape and Reel; Case/Size Code: 1260P; Length: 12mm; Width: 12mm; Height: 6mm; DC Resistance Max: 860mOhm; Inductance: 680uH; Rated Current: 0.72A
footprint WE-PD_1260P
simulation model 1260_7447706681_680u
pins: 1, 2

## 7447707015
designator L?, comment 1.5uH, 12A  (value not drawn)
WE-PD SMT Power Inductor, size 1280P, 1.5uH, 12A, 5.5mOhm; Manufacturer Part Number: 7447707015; Manufacturer: Wurth Elektronik; DC Resistance: 4.6mOhm; Saturation Current: 24A; Self Resonant Frequency: 49.2MHz; Type: Performance; Category: Power Inductors; Match Code: WE-PD; ComponentLink1Description: Website Link; ComponentLink1URL: https://www.we-online.com/redexpert/article/7447707015?ad; ComponentLink2Description: Datasheet Link; ComponentLink2URL: https://www.we-online.com/redexpert/spec/7447707015?ad; Mount: Surface Mount; Operating Temperature Max: 150°C; Operating Temperature Min: -40°C; Packaging: Tape and Reel; Case/Size Code: 1280P; Length: 12mm; Width: 12mm; Height: 8mm; DC Resistance Max: 5.5mOhm; Inductance: 1.5uH; Rated Current: 12A
footprint WE-PD_1280P
simulation model 1280_7447707015_1.5u
pins: 1, 2

## 7447707022
designator L?, comment 2.2uH, 11A  (value not drawn)
WE-PD SMT Power Inductor, size 1280P, 2.2uH, 11A, 6.8mOhm; Manufacturer Part Number: 7447707022; Manufacturer: Wurth Elektronik; DC Resistance: 5.7mOhm; Saturation Current: 20.5A; Self Resonant Frequency: 41.7MHz; Type: Performance; Category: Power Inductors; Match Code: WE-PD; ComponentLink1Description: Website Link; ComponentLink1URL: https://www.we-online.com/redexpert/article/7447707022?ad; ComponentLink2Description: Datasheet Link; ComponentLink2URL: https://www.we-online.com/redexpert/spec/7447707022?ad; Mount: Surface Mount; Operating Temperature Max: 150°C; Operating Temperature Min: -40°C; Packaging: Tape and Reel; Case/Size Code: 1280P; Length: 12mm; Width: 12mm; Height: 8mm; DC Resistance Max: 6.8mOhm; Inductance: 2.2uH; Rated Current: 11A
footprint WE-PD_1280P
simulation model 1280_7447707022_2.2u
pins: 1, 2

## 7447707033
designator L?, comment 3.3uH, 9.4A  (value not drawn)
WE-PD SMT Power Inductor, size 1280P, 3.3uH, 9.4A, 9mOhm; Manufacturer Part Number: 7447707033; Manufacturer: Wurth Elektronik; DC Resistance: 7.5mOhm; Saturation Current: 17.5A; Self Resonant Frequency: 32.3MHz; Type: Performance; Category: Power Inductors; Match Code: WE-PD; ComponentLink1Description: Website Link; ComponentLink1URL: https://www.we-online.com/redexpert/article/7447707033?ad; ComponentLink2Description: Datasheet Link; ComponentLink2URL: https://www.we-online.com/redexpert/spec/7447707033?ad; Mount: Surface Mount; Operating Temperature Max: 150°C; Operating Temperature Min: -40°C; Packaging: Tape and Reel; Case/Size Code: 1280P; Length: 12mm; Width: 12mm; Height: 8mm; DC Resistance Max: 9mOhm; Inductance: 3.3uH; Rated Current: 9.4A
footprint WE-PD_1280P
simulation model 1280_7447707033_3.3u
pins: 1, 2

## 7447707047
designator L?, comment 4.7uH, 8.5A  (value not drawn)
WE-PD SMT Power Inductor, size 1280P, 4.7uH, 8.5A, 10mOhm; Manufacturer Part Number: 7447707047; Manufacturer: Wurth Elektronik; DC Resistance: 8.5mOhm; Saturation Current: 15.5A; Self Resonant Frequency: 28.8MHz; Type: Performance; Category: Power Inductors; Match Code: WE-PD; ComponentLink1Description: Website Link; ComponentLink1URL: https://www.we-online.com/redexpert/article/7447707047?ad; ComponentLink2Description: Datasheet Link; ComponentLink2URL: https://www.we-online.com/redexpert/spec/7447707047?ad; Mount: Surface Mount; Operating Temperature Max: 150°C; Operating Temperature Min: -40°C; Packaging: Tape and Reel; Case/Size Code: 1280P; Length: 12mm; Width: 12mm; Height: 8mm; DC Resistance Max: 10mOhm; Inductance: 4.7uH; Rated Current: 8.5A
footprint WE-PD_1280P
simulation model 1280_7447707047_4.7u
pins: 1, 2

## 7447707068
designator L?, comment 6.8uH, 6.8A  (value not drawn)
WE-PD SMT Power Inductor, size 1280P, 6.8uH, 6.8A, 14mOhm; Manufacturer Part Number: 7447707068; Manufacturer: Wurth Elektronik; DC Resistance: 11.8mOhm; Saturation Current: 13A; Self Resonant Frequency: 19.1MHz; Type: Performance; Category: Power Inductors; Match Code: WE-PD; ComponentLink1Description: Website Link; ComponentLink1URL: https://www.we-online.com/redexpert/article/7447707068?ad; ComponentLink2Description: Datasheet Link; ComponentLink2URL: https://www.we-online.com/redexpert/spec/7447707068?ad; Mount: Surface Mount; Operating Temperature Max: 150°C; Operating Temperature Min: -40°C; Packaging: Tape and Reel; Case/Size Code: 1280P; Length: 12mm; Width: 12mm; Height: 8mm; DC Resistance Max: 14mOhm; Inductance: 6.8uH; Rated Current: 6.8A
footprint WE-PD_1280P
simulation model 1280_7447707068_6.8u
pins: 1, 2

## 7447707100
designator L?, comment 10uH, 5.6A  (value not drawn)
WE-PD SMT Power Inductor, size 1280P, 10uH, 5.6A, 21mOhm; Manufacturer Part Number: 7447707100; Manufacturer: Wurth Elektronik; DC Resistance: 18mOhm; Saturation Current: 11A; Self Resonant Frequency: 15.1MHz; Type: Performance; Category: Power Inductors; Match Code: WE-PD; ComponentLink1Description: Website Link; ComponentLink1URL: https://www.we-online.com/redexpert/article/7447707100?ad; ComponentLink2Description: Datasheet Link; ComponentLink2URL: https://www.we-online.com/redexpert/spec/7447707100?ad; Mount: Surface Mount; Operating Temperature Max: 150°C; Operating Temperature Min: -40°C; Packaging: Tape and Reel; Case/Size Code: 1280P; Length: 12mm; Width: 12mm; Height: 8mm; DC Resistance Max: 21mOhm; Inductance: 10uH; Rated Current: 5.6A
footprint WE-PD_1280P
simulation model 1280_7447707100_10u
pins: 1, 2